# Altium schematic symbol library bourns-magnetics.SchLib: 8 symbols
Pins are listed as number, name and electrical type; pins without a type are passive.

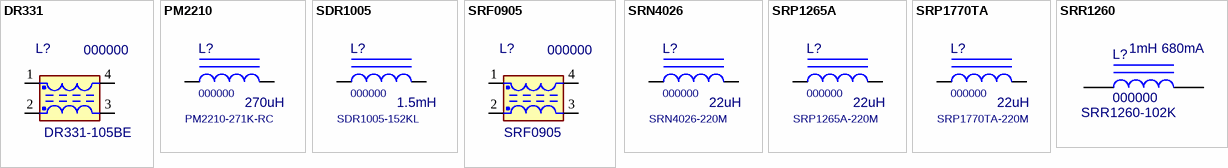
[diagram p0: symbols DR331 to SRR1260]

## DR331
designator L?, comment 000000  value DR331-105BE
SMD - Common Mode Filter; MF: Bourns; ExtraInfo: *; PN: 000000; Package: SMT; MF PN: DR331-105BE
footprint DR331
pins: 1, 2, 3, 4

## PM2210
designator L?, comment 000000  value 270uH  MF PN: PM2210-271K-RC
Magnetic-Core Inductor; MF: Bourns; PN: 000000; ExtraInfo: *; Package: SMT
simulation model INDUCTOR (Inductor)
signal-integrity model Inductor Iron
footprint PM2110 (SMT Power Inductor)
pins: 1, 2

## SDR1005
designator L?, comment 000000  value 1.5mH  MF PN: SDR1005-152KL
Magnetic-Core Inductor; MF: Bourns; PN: 000000; ExtraInfo: *; Package: SMT
simulation model INDUCTOR (Inductor)
signal-integrity model Inductor Iron
footprint SDR1005 (SMT Power Inductor)
pins: 1, 2

## SRF0905
designator L?, comment 000000  value SRF0905
SMD - Common Mode Filter; MF: Bourns; ExtraInfo: *; PN: 000000; Package: SMT
footprint SRF0905
footprint SRF0905
pins: 1, 2, 3, 4

## SRN4026
designator L?, comment 000000  value 22uH  MF PN: SRN4026-220M
Shielded Power Inductor; MF: Bourns; PN: 000000; ExtraInfo: *; Price: *; Digi-Key PN: *; Package: SMT
simulation model INDUCTOR (Inductor)
signal-integrity model Inductor Iron
footprint SRN4026 (Precision Wire Wound Inductor, 2-Leads, Body 4.0x4.0mm, IPC Medium Density)
pins: 1, 2

## SRP1265A
designator L?, comment 000000  value 22uH  MF PN: SRP1265A-220M
Shielded Power Inductor; MF: Bourns; PN: 000000; ExtraInfo: *; Package: SMT
simulation model INDUCTOR (Inductor)
signal-integrity model Inductor Iron
footprint SRP1265A (Shielded Power Inductor, 12.5mmx13.5mm)
pins: 1, 2

## SRP1770TA
designator L?, comment 000000  value 22uH  MF PN: SRP1770TA-220M
Shielded Power Inductor; MF: Bourns; PN: 000000; ExtraInfo: *; Price: *; Digi-Key PN: *; Package: SMT
simulation model INDUCTOR (Inductor)
signal-integrity model Inductor Iron
footprint SRP1770TA (Shielded Power Inductor, 17mmx17mm)
pins: 1, 2

## SRR1260
designator L?, comment 000000  value 1mH 680mA  MF PN: SRR1260-102K
Magnetic-Core Inductor; MF: Bourns; ExtraInfo: *; PN: 000000; Package: SMT
simulation model INDUCTOR (Inductor)
signal-integrity model Inductor Iron
footprint SRR1260 (Shielded Surface Mount Power Inductor)
pins: 1, 2